# Altium schematic symbol library Transistors.SchLib: 19 symbols
Pins are listed as number, name and electrical type; pins without a type are passive.

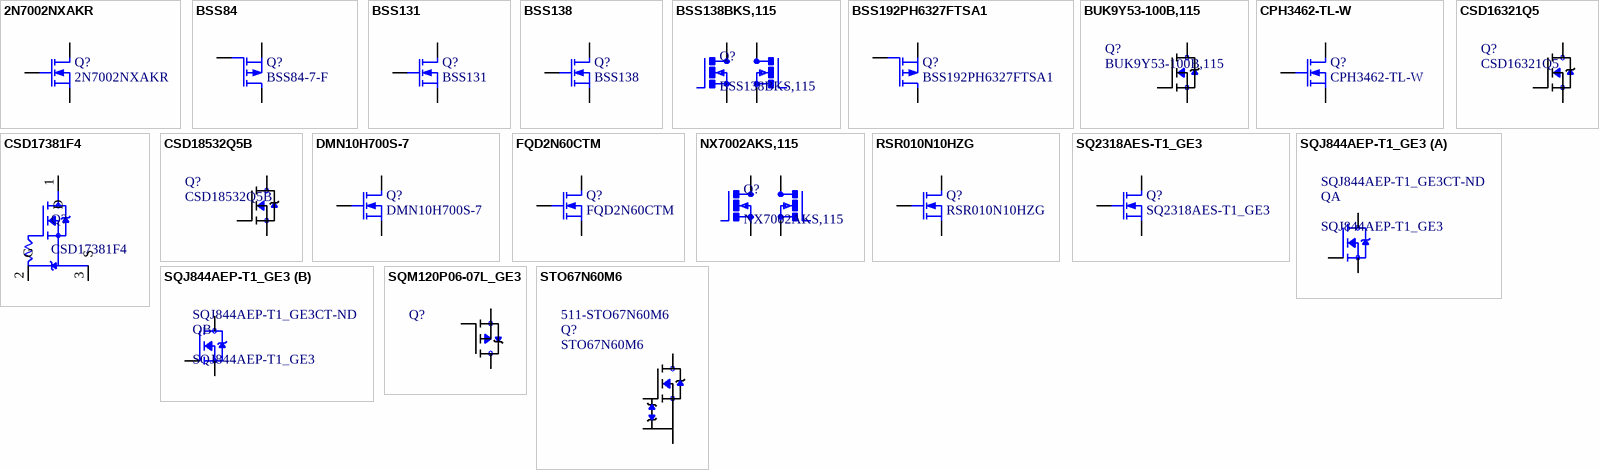
[diagram p0: symbols 2N7002NXAKR to STO67N60M6]

## 2N7002NXAKR
designator Q?
MOSFET N-CH 60V 190MA TO236AB; Published: 8-Jun-2000; LatestRevisionDate: 17-Jul-2002; LatestRevisionNote: Re-released for DXP Platform.; PackageVersion: 1995/1996; PackageReference: E3; Publisher: Altium Limited; PackageDescription: TO, Flat Index; 3 In-Line, Axial Leads; Body Dia. 4.6mm; Lead Dia. 0.5 mm (max); Supplier 1: Digi-Key; Supplier Part Number 1: BSS138CT-ND
footprint SOT-23-3_N (SOT23, 6-Leads, Body 2.9x1.6mm, Pitch 0.95mm, Lead Span 2.7mm, IPC Medium Density)
pins: 1 D, 2 G, 3 S

## BSS84
designator Q?, comment BSS84-7-F
MOSFET P-CH 50V 130MA SOT23-3; Published: 8-Jun-2000; LatestRevisionDate: 17-Jul-2002; LatestRevisionNote: Re-released for DXP Platform.; PackageVersion: 1995/1996; PackageReference: E3; Publisher: Altium Limited; PackageDescription: TO, Flat Index; 3 In-Line, Axial Leads; Body Dia. 4.6mm; Lead Dia. 0.5 mm (max); Supplier 1: Digi-Key; Supplier Part Number 1: BSS84-FDICT-ND
footprint SOT-23-3_N (SOT23, 6-Leads, Body 2.9x1.6mm, Pitch 0.95mm, Lead Span 2.7mm, IPC Medium Density)
pins: 1 D, 2 G, 3 S

## BSS131
designator Q?
MOSFET N-CH 240V 0.11A SOT23; Published: 8-Jun-2000; LatestRevisionDate: 17-Jul-2002; LatestRevisionNote: Re-released for DXP Platform.; PackageVersion: 1995/1996; PackageReference: E3; Publisher: Altium Limited; PackageDescription: TO, Flat Index; 3 In-Line, Axial Leads; Body Dia. 4.6mm; Lead Dia. 0.5 mm (max); Supplier 1: Digi-Key; Supplier Part Number 1: BSS131H6327XTSA1CT-ND
footprint SOT-23-3_N (SOT23, 6-Leads, Body 2.9x1.6mm, Pitch 0.95mm, Lead Span 2.7mm, IPC Medium Density)
pins: 1 D, 2 G, 3 S

## BSS138
designator Q?
MOSFET N-CH 50V 220MA SOT-23; Published: 8-Jun-2000; LatestRevisionDate: 17-Jul-2002; LatestRevisionNote: Re-released for DXP Platform.; PackageVersion: 1995/1996; PackageReference: E3; Publisher: Altium Limited; PackageDescription: TO, Flat Index; 3 In-Line, Axial Leads; Body Dia. 4.6mm; Lead Dia. 0.5 mm (max); Supplier 1: Digi-Key; Supplier Part Number 1: BSS138CT-ND
footprint SOT-23-3_N (SOT23, 6-Leads, Body 2.9x1.6mm, Pitch 0.95mm, Lead Span 2.7mm, IPC Medium Density)
pins: 1 D, 2 G, 3 S

## BSS138BKS,115
designator Q?
MOSFET 2N-CH 60V 0.32A 6TSSOP; MF: Nexperia USA; Availability: Unavailable; SnapEDA_Link: https://www.snapeda.com/parts/BSS138BKS,115/Nexperia%20USA%20Inc./view-part/1788679/?ref=snap; MP: BSS138BKS,115; Value: *; Price: None; Package: SOT-363 Nexperia; Supplier 1: Digi-Key; Supplier Part Number 1: 1727-6478-1-ND
footprint SOT-363
pins: 1 S, 2 G, 3 D, 4 S, 5 G, 6 D

## BSS192PH6327FTSA1
designator Q?
MOSFET P-CH 250V 0.19A SOT-89; Published: 8-Jun-2000; LatestRevisionDate: 17-Jul-2002; LatestRevisionNote: Re-released for DXP Platform.; PackageVersion: 1995/1996; PackageReference: E3; Publisher: Altium Limited; PackageDescription: TO, Flat Index; 3 In-Line, Axial Leads; Body Dia. 4.6mm; Lead Dia. 0.5 mm (max); Supplier 1: Digi-Key; Supplier Part Number 1: BSS192PH6327FTSA1CT-ND
footprint SOT-89
pins: 1 G, 2 D, 3 S

## BUK9Y53-100B,115
designator Q?
MOSFET N-CH 100V 23A LFPAK56; MP: CSD16321Q5; MF: Texas Instruments; Package: VSON-CLIP-8 Texas Instruments; Texas_Instruments-Purchase-URL: https://snapeda.com/shop?store=Texas+Instruments&id=301755; SnapEDA_Link: https://www.snapeda.com/parts/CSD16321Q5/Texas%20Instruments/view-part/301755/?ref=snap; Price: None; Availability: Warning; BuyPart: https://www.snapeda.com/parts/CSD16321Q5/Texas%20Instruments/view-part/301755/?ref=eda; DigiKey-Purchase-URL: https://snapeda.com/shop?store=DigiKey&id=301755; Mouser-Purchase-URL: https://snapeda.com/shop?store=Mouser&id=301755; Value: *; Supplier 1: Digi-Key; Supplier Part Number 1: 1727-4944-1-ND
footprint SO-8L_PowerPAK
pins: 1 S, 2 S, 3 S, 4 G, 5 D, 6 D, 7 D, 8 D, 9 D

## CPH3462-TL-W
designator Q?
MOSFET N-CH 100V 1A CPH3; Published: 8-Jun-2000; LatestRevisionDate: 17-Jul-2002; LatestRevisionNote: Re-released for DXP Platform.; PackageVersion: 1995/1996; PackageReference: E3; Publisher: Altium Limited; PackageDescription: TO, Flat Index; 3 In-Line, Axial Leads; Body Dia. 4.6mm; Lead Dia. 0.5 mm (max); Supplier 1: Digi-Key; Supplier Part Number 1: CPH3462-TL-WOSCT-ND
footprint SOT-23-3_N (SOT23, 6-Leads, Body 2.9x1.6mm, Pitch 0.95mm, Lead Span 2.7mm, IPC Medium Density)
pins: 1 D, 2 G, 3 S

## CSD16321Q5
designator Q?
MOSFET N-CH 25V 100A 8-SON; MF: Texas Instruments; Package: VSON-CLIP-8 Texas Instruments; Texas_Instruments-Purchase-URL: https://snapeda.com/shop?store=Texas+Instruments&id=301755; SnapEDA_Link: https://www.snapeda.com/parts/CSD16321Q5/Texas%20Instruments/view-part/301755/?ref=snap; Price: None; MP: CSD16321Q5; Availability: Warning; BuyPart: https://www.snapeda.com/parts/CSD16321Q5/Texas%20Instruments/view-part/301755/?ref=eda; DigiKey-Purchase-URL: https://snapeda.com/shop?store=DigiKey&id=301755; Mouser-Purchase-URL: https://snapeda.com/shop?store=Mouser&id=301755; Value: *; Supplier 1: Digi-Key; Supplier Part Number 1: 296-24517-1-ND
footprint SO-8
pins: 1 S, 2 S, 3 S, 4 G, 5 D, 6 D, 7 D, 8 D, TP D

## CSD17381F4
designator Q?
MOSFET N-CH 30V 3.1A 3PICOSTAR; MF: {'manufacturer': u'Texas Instruments'}; Package: None; MP: CSD17381F4; Value: *; Availability: Unavailable; Price: None; Supplier 1: Digi-Key; Supplier Part Number 1: 296-38913-1-ND
footprint PICOSTAR-3
pins: 1 D, 2 G, 3 S

## CSD18532Q5B
designator Q?
MOSFET N-CH 60V 23A 8VSON; MP: CSD16321Q5; MF: Texas Instruments; Package: VSON-CLIP-8 Texas Instruments; Texas_Instruments-Purchase-URL: https://snapeda.com/shop?store=Texas+Instruments&id=301755; SnapEDA_Link: https://www.snapeda.com/parts/CSD16321Q5/Texas%20Instruments/view-part/301755/?ref=snap; Price: None; Availability: Warning; BuyPart: https://www.snapeda.com/parts/CSD16321Q5/Texas%20Instruments/view-part/301755/?ref=eda; DigiKey-Purchase-URL: https://snapeda.com/shop?store=DigiKey&id=301755; Mouser-Purchase-URL: https://snapeda.com/shop?store=Mouser&id=301755; Value: *; Supplier 1: Digi-Key; Supplier Part Number 1: 296-35628-1-ND
footprint SO-8
pins: 1 S, 2 S, 3 S, 4 G, 5 D, 6 D, 7 D, 8 D, TP D

## DMN10H700S-7
designator Q?
MOSFET N-CH 100V 700MA SOT23; Published: 8-Jun-2000; LatestRevisionDate: 17-Jul-2002; LatestRevisionNote: Re-released for DXP Platform.; PackageVersion: 1995/1996; PackageReference: E3; Publisher: Altium Limited; PackageDescription: TO, Flat Index; 3 In-Line, Axial Leads; Body Dia. 4.6mm; Lead Dia. 0.5 mm (max); Supplier 1: Digi-Key; Supplier Part Number 1: DMN10H700S-7DICT-ND
footprint SOT-23-3_N (SOT23, 6-Leads, Body 2.9x1.6mm, Pitch 0.95mm, Lead Span 2.7mm, IPC Medium Density)
pins: 1 D, 2 G, 3 S

## FQD2N60CTM
designator Q?
MOSFET N-CH 600V 1.9A DPAK; Published: 8-Jun-2000; LatestRevisionDate: 17-Jul-2002; LatestRevisionNote: Re-released for DXP Platform.; PackageVersion: 1995/1996; PackageReference: E3; Publisher: Altium Limited; PackageDescription: TO, Flat Index; 3 In-Line, Axial Leads; Body Dia. 4.6mm; Lead Dia. 0.5 mm (max); Supplier 1: Digi-Key; Supplier Part Number 1: FQD2N60CTMCT-ND
footprint DPAK
pins: 1 D, 2 G, 3 S

## NX7002AKS,115
designator Q?
MOSFET 2N-CH 60V 0.17A SC-88; MP: BSS138BKS,115; MF: Nexperia USA; Availability: Unavailable; SnapEDA_Link: https://www.snapeda.com/parts/BSS138BKS,115/Nexperia%20USA%20Inc./view-part/1788679/?ref=snap; Value: *; Price: None; Package: SOT-363 Nexperia; Supplier 1: Digi-Key; Supplier Part Number 1: 1727-1291-1-ND
footprint SOT-363
pins: 1 S, 2 G, 3 D, 4 S, 5 G, 6 D

## RSR010N10HZG
designator Q?
MOSFET N-CH 100V 1A TSMT3; Published: 8-Jun-2000; LatestRevisionDate: 17-Jul-2002; LatestRevisionNote: Re-released for DXP Platform.; PackageVersion: 1995/1996; PackageReference: E3; Publisher: Altium Limited; PackageDescription: TO, Flat Index; 3 In-Line, Axial Leads; Body Dia. 4.6mm; Lead Dia. 0.5 mm (max); Supplier 1: Digi-Key; Supplier Part Number 1: 846-RSR010N10HZGTLCT-ND
footprint SOT-23-3_N (SOT23, 6-Leads, Body 2.9x1.6mm, Pitch 0.95mm, Lead Span 2.7mm, IPC Medium Density)
pins: 1 D, 2 G, 3 S

## SQ2318AES-T1_GE3
designator Q?
MOSFET N-CH 40V 8A SOT23-3; Published: 8-Jun-2000; LatestRevisionDate: 17-Jul-2002; LatestRevisionNote: Re-released for DXP Platform.; PackageVersion: 1995/1996; PackageReference: E3; Publisher: Altium Limited; PackageDescription: TO, Flat Index; 3 In-Line, Axial Leads; Body Dia. 4.6mm; Lead Dia. 0.5 mm (max); Supplier 1: Digi-Key; Supplier Part Number 1: SQ2318AES-T1_GE3CT-ND
footprint SOT-23-3_N (SOT23, 6-Leads, Body 2.9x1.6mm, Pitch 0.95mm, Lead Span 2.7mm, IPC Medium Density)
pins: 1 D, 2 G, 3 S

## SQJ844AEP-T1_GE3
designator Q  Supplier Part Number 1: SQJ844AEP-T1_GE3CT-ND
MOSFET 2N-CH 30V 8A PPAK SO-8; MF: Vishay Siliconix; MP: SQJ974EP-T1_GE3; Price: None; SnapEDA_Link: https://www.snapeda.com/parts/SQJ974EP-T1_GE3/Vishay%20Siliconix/view-part/829252/?ref=snap; Package: SO-8 Vishay; Availability: Unavailable; Value: *; Supplier 1: Digi-Key
footprint SO-8_DUAL
part A pins: 1 S1, 2 G1, 6 D1, 6_1 D1, 6_2 D1
part B pins: 3 S2, 4 G2, 5 D2, 5_1 D2, 5_2 D2

## SQM120P06-07L_GE3
designator Q?  (value not drawn)
MOSFET P-CH 60V 120A TO263; MP: CSD16321Q5; MF: Texas Instruments; Package: VSON-CLIP-8 Texas Instruments; Texas_Instruments-Purchase-URL: https://snapeda.com/shop?store=Texas+Instruments&id=301755; SnapEDA_Link: https://www.snapeda.com/parts/CSD16321Q5/Texas%20Instruments/view-part/301755/?ref=snap; Price: None; Availability: Warning; BuyPart: https://www.snapeda.com/parts/CSD16321Q5/Texas%20Instruments/view-part/301755/?ref=eda; DigiKey-Purchase-URL: https://snapeda.com/shop?store=DigiKey&id=301755; Mouser-Purchase-URL: https://snapeda.com/shop?store=Mouser&id=301755; Value: *; Supplier 1: Digi-Key; Supplier Part Number 1: SQM120P06-07L_GE3CT-ND
footprint D2PAK
pins: 1 G, 2 D, 3 S

## STO67N60M6
designator Q?  Supplier Part Number 1: 511-STO67N60M6
MOSFET N-channel 600 V, 48 mOhm typ 34 A MDmesh M6 Power MOSFET in a TO-LL package; MP: CSD16321Q5; MF: Texas Instruments; Package: VSON-CLIP-8 Texas Instruments; Texas_Instruments-Purchase-URL: https://snapeda.com/shop?store=Texas+Instruments&id=301755; SnapEDA_Link: https://www.snapeda.com/parts/CSD16321Q5/Texas%20Instruments/view-part/301755/?ref=snap; Price: None; Availability: Warning; BuyPart: https://www.snapeda.com/parts/CSD16321Q5/Texas%20Instruments/view-part/301755/?ref=eda; DigiKey-Purchase-URL: https://snapeda.com/shop?store=DigiKey&id=301755; Mouser-Purchase-URL: https://snapeda.com/shop?store=Mouser&id=301755; Value: *; Supplier 1: Mouser
footprint TO-LL; pin to pad G>1 S>3+4+5+6+7+8 S-KELVIN>2
pins: G, S, S-KELVIN S, TAB D